# EAGLE library part 74HC4060D,652 (library NXP_By_element14_Batch_1)
14-stage binary ripple counter with oscillator
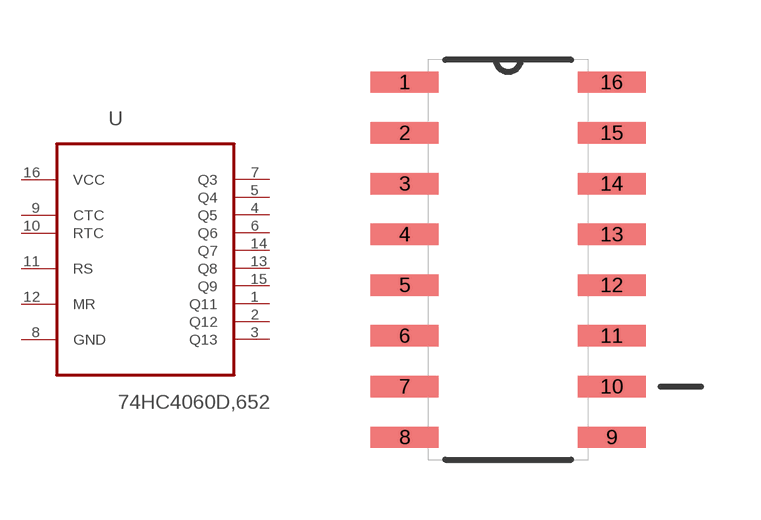
[diagram p116: symbol with the pads of SOIC127P600X175-16N; footprint SOIC127P600X175-16N]

Designator prefix U

## 74HC4060D,652 (MPN: 74HC4060D,652; OC_FARNELL: 1868618; OC_NEWARK: 71R2533; P1I: o; PACKAGE: SOIC-16; SUPPLIER: NXP)  [SOIC127P600X175-16N]
1  Q11  out
2  Q12  out
3  Q13  out
4  Q5  out
5  Q4  out
6  Q6  out
7  Q3  out
8  GND  pas
9  CTC  pas
10  RTC  pas
11  RS  in
12  MR  in
13  Q8  out
14  Q7  out
15  Q9  out
16  VCC  pwr

## Footprint SOIC127P600X175-16N (pad centres in mm)
smd 1.702 x 0.533: 1 -2.591,4.445; 2 -2.591,3.175; 3 -2.591,1.905; 4 -2.591,0.635; 5 -2.591,-0.635; 6 -2.591,-1.905; 7 -2.591,-3.175; 8 -2.591,-4.445; 9 2.591,-4.445; 10 2.591,-3.175; 11 2.591,-1.905; 12 2.591,-0.635; 13 2.591,0.635; 14 2.591,1.905; 15 2.591,3.175; 16 2.591,4.445